# Altium footprint library JST_B5B-ZR(LF)(SN).PcbLib: 1 footprints
Each footprint in its own frame and in the unit in brackets; x right, y up, seen from the top. Pads: shape width x height; smd on the part's side, far side on the other; paste and mask are expansions set on the pad; w line width, h text height; cw(c..) or ccw(c..) is an arc to the next point about the centre after c.
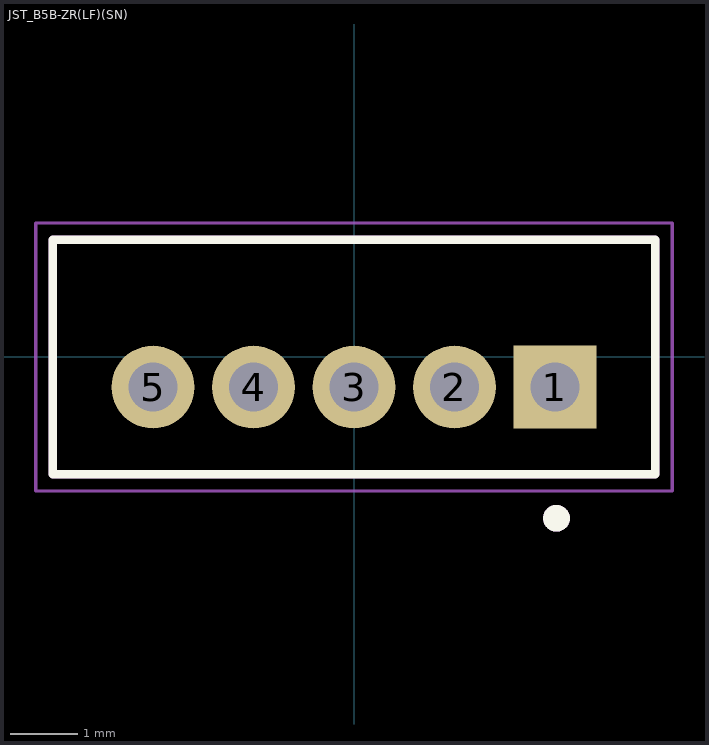
[diagram p0: the footprint, top view; thin cyan lines are the x and y axes]

## JST_B5B-ZR(LF)(SN) [mm]
height 4.5
pads (5):
  rect 1.238x1.238 / inner round 1.238 / far side rect 1.238x1.238 hole 0.73: 1(3,-0.45)
  round 1.238 hole 0.73: 2(1.5,-0.45) 3(0,-0.45) 4(-1.5,-0.45) 5(-3,-0.45)
Top Overlay:
  circle w0.2: c3.023,-2.408 r0.1
  lines w0.127: -4.5,-1.75 4.5,-1.75 4.5,1.75 -4.5,1.75 -4.5,-1.75
Mechanical 13:
  circle w0.2: c3.023,-2.408 r0.1
  lines w0.127: -4.5,-1.75 4.5,-1.75 4.5,1.75 -4.5,1.75 -4.5,-1.75
Mechanical 15:
  lines w0.05: -4.75,-2 4.75,-2 4.75,2 -4.75,2 -4.75,-2
3D body "step_temp.STEP": height 4.5, standoff -2.7, extent -4.5,-1.778 4.5,1.722